# EAGLE library part PIC18F46K80 (library noah)
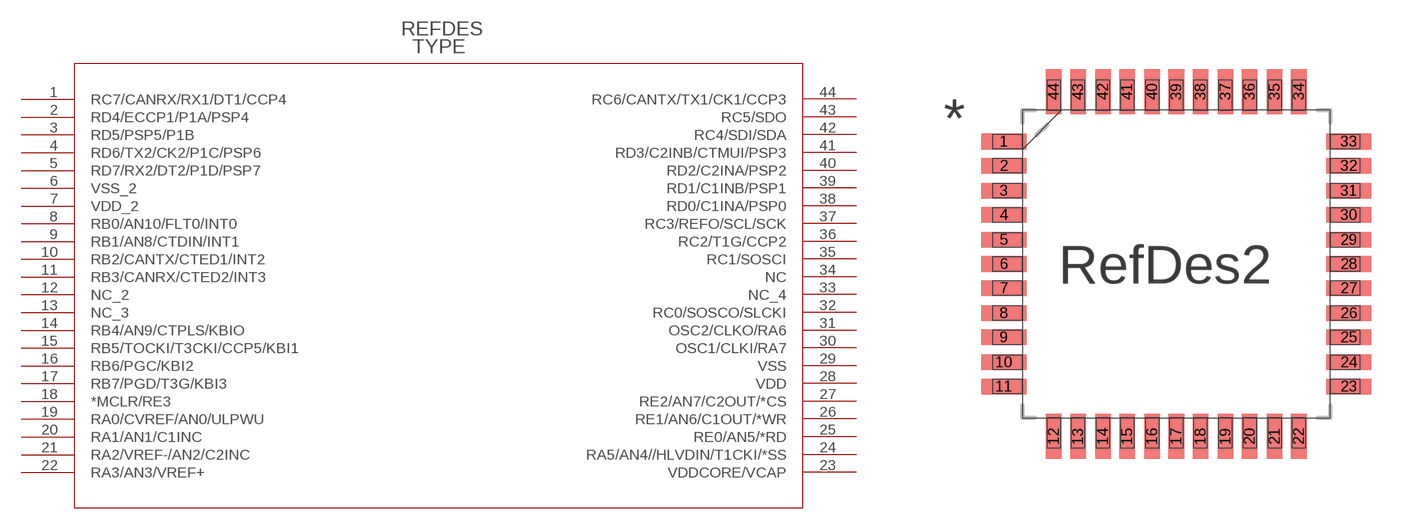
[diagram p0: symbol with the pads of TQFP44_MC; footprint TQFP44_MC]

Designator prefix -

## PIC18F46K80  [TQFP44_MC]
1  RC7/CANRX/RX1/DT1/CCP4  pas
2  RD4/ECCP1/P1A/PSP4  pas
3  RD5/PSP5/P1B  pas
4  RD6/TX2/CK2/P1C/PSP6  pas
5  RD7/RX2/DT2/P1D/PSP7  pas
6  VSS_2  pas
7  VDD_2  pas
8  RB0/AN10/FLT0/INT0  pas
9  RB1/AN8/CTDIN/INT1  pas
10  RB2/CANTX/CTED1/INT2  pas
11  RB3/CANRX/CTED2/INT3  pas
12  NC_2  pas
13  NC_3  pas
14  RB4/AN9/CTPLS/KBIO  pas
15  RB5/TOCKI/T3CKI/CCP5/KBI1  pas
16  RB6/PGC/KBI2  pas
17  RB7/PGD/T3G/KBI3  pas
18  *MCLR/RE3  pas
19  RA0/CVREF/AN0/ULPWU  pas
20  RA1/AN1/C1INC  pas
21  RA2/VREF-/AN2/C2INC  pas
22  RA3/AN3/VREF+  pas
23  VDDCORE/VCAP  pas
24  RA5/AN4//HLVDIN/T1CKI/*SS  pas
25  RE0/AN5/*RD  pas
26  RE1/AN6/C1OUT/*WR  pas
27  RE2/AN7/C2OUT/*CS  pas
28  VDD  pas
29  VSS  pas
30  OSC1/CLKI/RA7  pas
31  OSC2/CLKO/RA6  pas
32  RC0/SOSCO/SLCKI  pas
33  NC_4  pas
34  NC  pas
35  RC1/SOSCI  pas
36  RC2/T1G/CCP2  pas
37  RC3/REFO/SCL/SCK  pas
38  RD0/C1INA/PSP0  pas
39  RD1/C1INB/PSP1  pas
40  RD2/C2INA/PSP2  pas
41  RD3/C2INB/CTMUI/PSP3  pas
42  RC4/SDI/SDA  pas
43  RC5/SDO  pas
44  RC6/CANTX/TX1/CK1/CCP3  pas

## Footprint TQFP44_MC (pad centres in mm)
smd 1.473 x 0.508: 1 -5.613,3.988; 2 -5.613,3.2; 3 -5.613,2.388; 4 -5.613,1.6; 5 -5.613,0.787; 6 -5.613,0; 7 -5.613,-0.787; 8 -5.613,-1.6; 9 -5.613,-2.388; 10 -5.613,-3.2; 11 -5.613,-3.988; 23 5.613,-3.988; 24 5.613,-3.2; 25 5.613,-2.388; 26 5.613,-1.6; 27 5.613,-0.787; 28 5.613,0; 29 5.613,0.787; 30 5.613,1.6; 31 5.613,2.388; 32 5.613,3.2; 33 5.613,3.988
smd 0.508 x 1.473: 12 -3.988,-5.613; 13 -3.2,-5.613; 14 -2.388,-5.613; 15 -1.6,-5.613; 16 -0.787,-5.613; 17 0,-5.613; 18 0.787,-5.613; 19 1.6,-5.613; 20 2.388,-5.613; 21 3.2,-5.613; 22 3.988,-5.613; 34 3.988,5.613; 35 3.2,5.613; 36 2.388,5.613; 37 1.6,5.613; 38 0.787,5.613; 39 0,5.613; 40 -0.787,5.613; 41 -1.6,5.613; 42 -2.388,5.613; 43 -3.2,5.613; 44 -3.988,5.613